# Altium footprint library PCB Components.PcbLib: 18 footprints (part 1 of 2)
Each footprint in its own frame and in the unit in brackets; x right, y up, seen from the top. Pads: shape width x height; smd on the part's side, far side on the other; paste and mask are expansions set on the pad; w line width, h text height; cw(c..) or ccw(c..) is an arc to the next point about the centre after c.
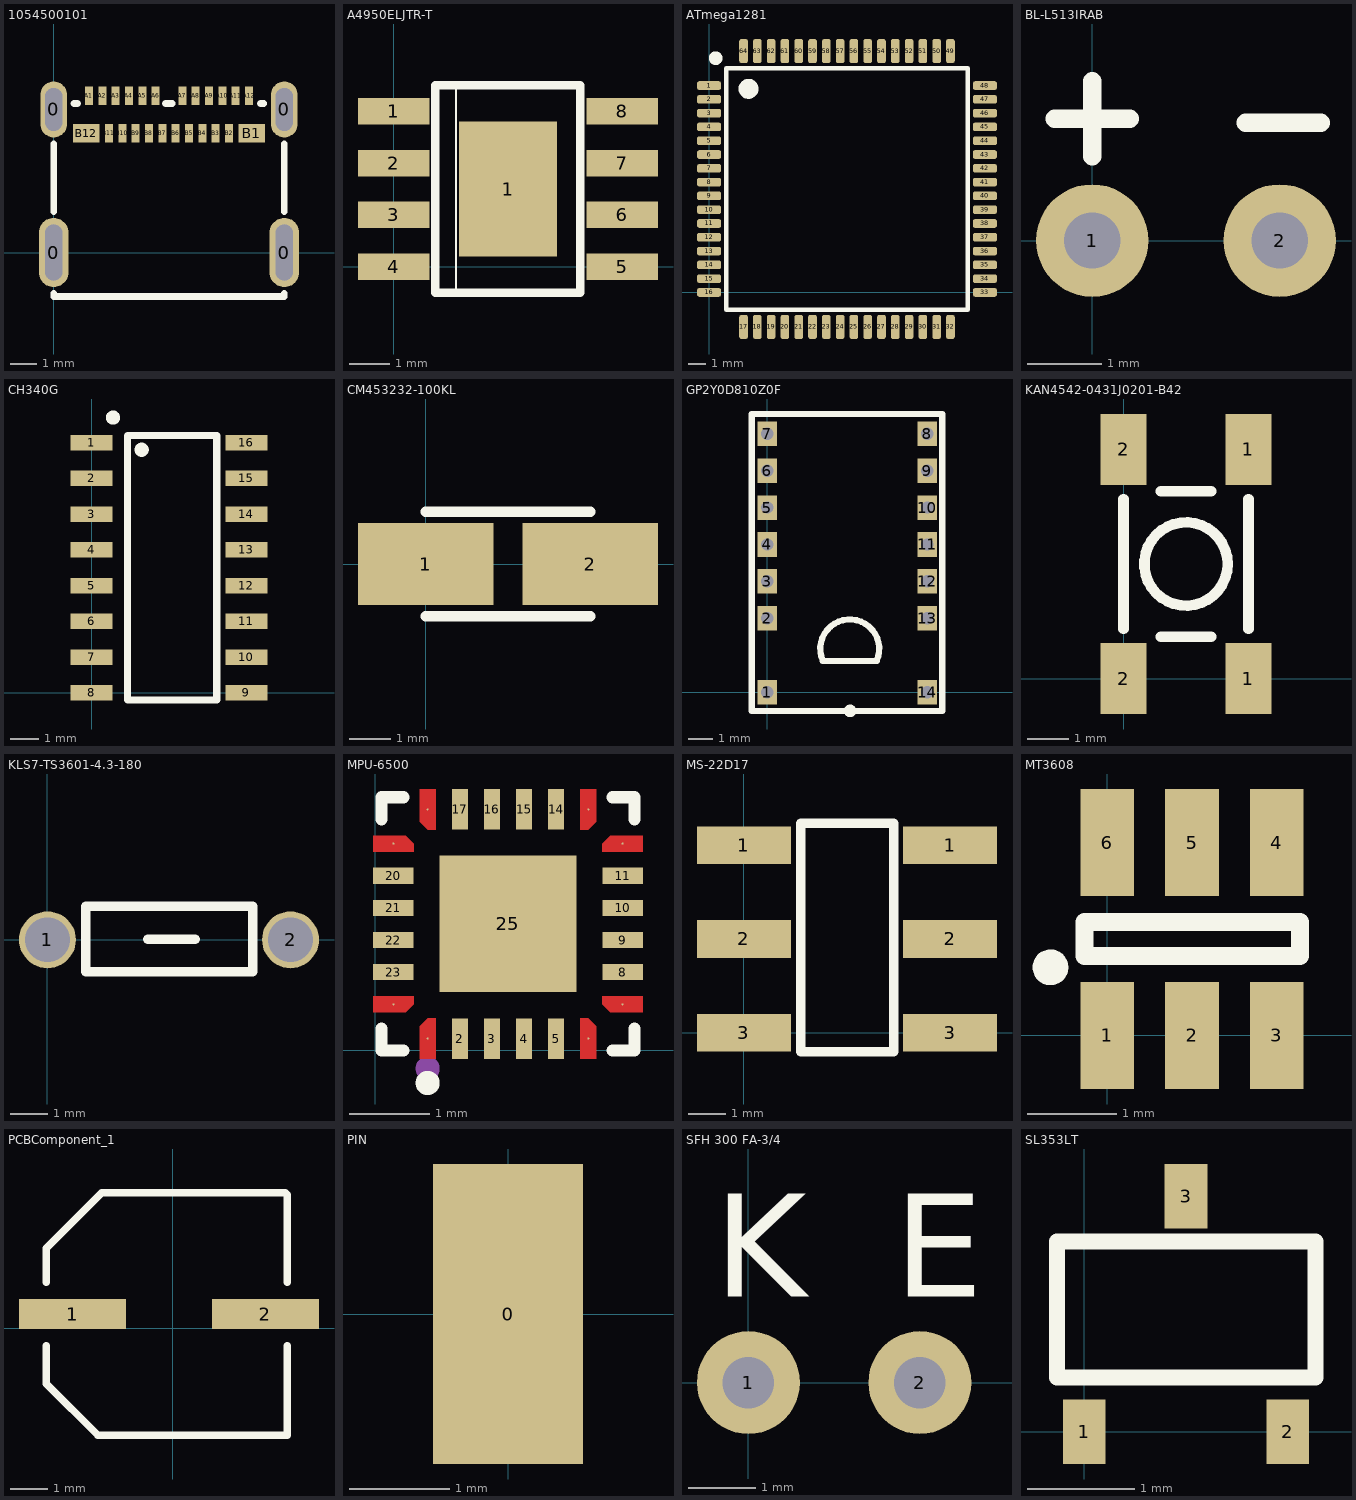
[diagram p0: the footprints below, top view; thin cyan lines are the x and y axes]

## 1054500101 [mm]
pads (28):
  oval 1.1x2.6 hole 0.65 slot 2.1 at 90 deg: 0(0,0) 0(8.64,0)
  oval 1x2.1 hole 0.65 slot 1.6 at 90 deg: 0(0,5.36) 0(8.64,5.36)
  rect 0.3x0.7 smd: A1(1.32,5.87) A2(1.82,5.87) A3(2.32,5.87) A4(2.82,5.87) A5(3.32,5.87) A6(3.82,5.87) A7(4.82,5.87) A8(5.32,5.87) A9(5.82,5.87) A10(6.32,5.87) A11(6.82,5.87) A12(7.32,5.87) B2(6.57,4.47) B3(6.07,4.47) B4(5.57,4.47) B5(5.07,4.47) B6(4.57,4.47) B7(4.07,4.47) B8(3.57,4.47) B9(3.07,4.47) B10(2.57,4.47) B11(2.07,4.47)
  rect 1x0.7 smd: B1(7.42,4.47) B12(1.22,4.47)
Top Overlay:
  lines w0.254: 0,-1.524 0,-1.651 8.636,-1.651 8.636,-1.524 ; 0,1.524 0,4.064 ; 0.762,5.588 0.889,5.588 ; 4.191,5.588 4.445,5.588 ; 7.747,5.588 7.874,5.588 ; 8.636,1.524 8.636,4.064

## A4950ELJTR-T [mm]
pads (9):
  rect 1.75x0.65 smd: 1(0,3.81) 2(0,2.54) 3(0,1.27) 4(0,0) 5(5.6,0) 6(5.6,1.27) 7(5.6,2.54) 8(5.6,3.81)
  rect 2.41x3.3 smd: 1(2.8,1.905)
Top Overlay:
  lines w0.05: 1.524,-0.635 1.524,4.445
  lines w0.2: 1.016,-0.635 4.572,-0.635 4.572,4.445 1.016,4.445 1.016,-0.635

## ATmega1281 [mm]
pads (64):
  rrect50% 1.4x0.5 smd: 1(0,12) 2(0,11.2) 3(0,10.4) 4(0,9.6) 5(0,8.8) 6(0,8) 7(0,7.2) 8(0,6.4) 9(0,5.6) 10(0,4.8) 11(0,4) 12(0,3.2) 13(0,2.4) 14(0,1.6) 15(0,0.8) 16(0,0) 33(16,0) 34(16,0.8) 35(16,1.6) 36(16,2.4) 37(16,3.2) 38(16,4) 39(16,4.8) 40(16,5.6) 41(16,6.4) 42(16,7.2) 43(16,8) 44(16,8.8) 45(16,9.6) 46(16,10.4) 47(16,11.2) 48(16,12)
  rrect50% 0.5x1.4 smd: 17(2,-2) 18(2.8,-2) 19(3.6,-2) 20(4.4,-2) 21(5.2,-2) 22(6,-2) 23(6.8,-2) 24(7.6,-2) 25(8.4,-2) 26(9.2,-2) 27(10,-2) 28(10.8,-2) 29(11.6,-2) 30(12.4,-2) 31(13.2,-2) 32(14,-2) 49(14,14) 50(13.2,14) 51(12.4,14) 52(11.6,14) 53(10.8,14) 54(10,14) 55(9.2,14) 56(8.4,14) 57(7.6,14) 58(6.8,14) 59(6,14) 60(5.2,14) 61(4.4,14) 62(3.6,14) 63(2.8,14) 64(2,14)
Top Overlay:
  circle w0.6: c2.286,11.811 r0.278
  circle w0.4: c0.381,13.589 r0.198
  lines w0.254: 1,-1 15,-1 15,13 1,13 1,-1

## BL-L513IRAB [mil]
pads (2):
  round 60 hole 30: 1(0,0) 2(100,0)
Top Overlay:
  lines w9.84: -20,65 20,65 ; 0,45 0,85 ; 81.96,62.76 121.96,62.76

## CH340G [mm]
pads (16):
  rect 1.5x0.55 smd: 1(0,8.89) 2(0,7.62) 3(0,6.35) 4(0,5.08) 5(0,3.81) 6(0,2.54) 7(0,1.27) 8(0,0) 9(5.5,0) 10(5.5,1.27) 11(5.5,2.54) 12(5.5,3.81) 13(5.5,5.08) 14(5.5,6.35) 15(5.5,7.62) 16(5.5,8.89)
Top Overlay:
  circle w0.254: c0.762,9.779 r0.127
  circle w0.254: c1.778,8.636 r0.127
  lines w0.254: 1.27,-0.254 4.445,-0.254 4.445,9.144 1.27,9.144 1.27,-0.254

## CM453232-100KL [mm]
pads (2):
  rect 3.3x2 smd: 1(0,0) 2(4,0)
Top Overlay:
  lines w0.254: 0,-1.27 4,-1.27 ; 0,1.27 4,1.27

## GP2Y0D810Z0F [mm]
pads (14):
  rect 0.8x1 hole 0.5 square: 1(0,0) 2(0,3) 3(0,4.5) 4(0,6) 5(0,7.5) 6(0,9) 7(0,10.5) 8(6.5,10.5) 9(6.5,9) 10(6.5,7.5) 11(6.5,6) 12(6.5,4.5) 13(6.5,3) 14(6.5,0)
Top Overlay:
  circle w0.254: c3.365,-0.762 r0.127
  lines w0.254: -0.635,-0.762 -0.635,11.303 7.112,11.303 7.112,-0.762 -0.635,-0.762 ; 2.255,1.27 cw(c3.35,1.757) 4.445,1.27 2.255,1.27

## KAN4542-0431J0201-B42 [mm]
pads (4):
  rect 1.1x1.7 smd: 1(3,0) 1(3,5.5) 2(0,0) 2(0,5.5)
Top Overlay:
  circle w0.254: c1.5,2.75 r1
  lines w0.254: 0,1.2 0,4.3 ; 0.9,1 2.1,1 ; 0.9,4.5 2.1,4.5 ; 3,1.2 3,4.3

## KLS7-TS3601-4.3-180 [mil]
pads (2):
  round 60 hole 47.24: 1(0,0) 2(255.91,0)
Top Overlay:
  lines w10: 105.76,0.42 155.6,0.42 ; 40.4,-33.42 40.4,35.1 216.39,35.1 216.39,-33.42 40.4,-33.42

## MPU-6500 [mm]
pads (25):
  round 0.025 smd mask+0.051: 1(0.65,0.147) 6(2.65,0.147) 7(3.077,0.574) 12(3.077,2.574) 13(2.65,3.001) 18(0.65,3.001) 19(0.223,2.574) 24(0.223,0.574)
  rect 0.2x0.505 smd paste-100 mask+0.051: 2(1.05,0.147) 3(1.45,0.147) 4(1.85,0.147) 5(2.25,0.147) 14(2.25,3.002) 15(1.85,3.002) 16(1.45,3.002) 17(1.05,3.002)
  rect 0.505x0.2 smd paste-100 mask+0.051: 8(3.077,0.974) 9(3.077,1.374) 10(3.077,1.774) 11(3.077,2.174) 20(0.222,2.174) 21(0.222,1.774) 22(0.222,1.374) 23(0.222,0.974)
  rect 1.7x1.7 smd paste-100 mask+0.051: 25(1.65,1.574)
Top Layer:
  region: 3.33,2.674 2.924,2.674 2.824,2.574 2.825,2.474 3.33,2.474
  region: 2.75,3.254 2.55,3.254 2.55,2.749 2.65,2.748 2.75,2.848
  region: 0.55,3.254 0.75,3.254 0.75,2.749 0.65,2.749 0.55,2.849
  region: -0.03,2.674 0.375,2.674 0.475,2.574 0.475,2.474 -0.03,2.474
  region: -0.03,0.474 0.375,0.474 0.475,0.574 0.475,0.674 -0.03,0.674
  region: 2.75,-0.106 2.55,-0.106 2.55,0.399 2.65,0.4 2.75,0.3
  region: 3.33,0.474 2.924,0.474 2.824,0.574 2.825,0.674 3.33,0.674
  region: 0.55,-0.106 0.75,-0.106 0.75,0.399 0.65,0.4 0.55,0.299
Top Overlay:
  circle w0.15: c0.65,-0.406 r0.075
  lines w0.152: 0.074,0.272 0.074,-0.002 0.347,-0.002 ; 0.074,2.877 0.074,3.15 0.347,3.15 ; 2.952,-0.002 3.226,-0.002 3.226,0.272 ; 2.952,3.15 3.226,3.15 3.226,2.877
Top Paste:
  region: 1.75,3.254 1.75,2.749 1.95,2.749 1.95,3.254
  region: 2.15,3.254 2.15,2.749 2.35,2.749 2.35,3.254
  region: 1.15,2.749 1.15,3.254 0.95,3.254 0.95,2.749
  region: 1.55,2.749 1.55,3.254 1.35,3.254 1.35,2.749
  region: 0.75,2.749 0.75,3.254 0.55,3.254 0.55,2.849 0.65,2.749
  region: 2.75,2.848 2.75,3.254 2.55,3.254 2.55,2.749 2.65,2.748
  region: -0.03,2.674 -0.03,2.474 0.475,2.474 0.475,2.574 0.375,2.674
  region: 2.924,2.674 2.824,2.574 2.825,2.474 3.33,2.474 3.33,2.674
  region: -0.03,2.274 -0.03,2.074 0.475,2.074 0.475,2.274
  region: 3.33,2.074 3.33,2.274 2.825,2.274 2.825,2.074
  region: 3.33,1.674 3.33,1.874 2.825,1.874 2.825,1.674
  region: -0.03,1.874 -0.03,1.674 0.475,1.674 0.475,1.874
  region: 3.33,1.274 3.33,1.474 2.825,1.474 2.825,1.274
  region: -0.03,1.474 -0.03,1.274 0.475,1.274 0.475,1.474
  region: -0.03,1.074 -0.03,0.874 0.475,0.874 0.475,1.074
  region: 3.33,0.874 3.33,1.074 2.825,1.074 2.825,0.874
  region: 0.93,2.294 2.37,2.294 2.37,0.854 0.93,0.854
  region: -0.03,0.674 -0.03,0.474 0.375,0.474 0.475,0.574 0.475,0.674
  region: 3.33,0.474 3.33,0.674 2.825,0.674 2.824,0.574 2.924,0.474
  region: 2.35,-0.106 2.35,0.399 2.15,0.399 2.15,-0.106
  region: 0.95,0.399 0.95,-0.106 1.15,-0.106 1.15,0.399
  region: 1.55,-0.106 1.55,0.399 1.35,0.399 1.35,-0.106
  region: 1.95,-0.106 1.95,0.399 1.75,0.399 1.75,-0.106
  region: 2.65,0.4 2.55,0.399 2.55,-0.106 2.75,-0.106 2.75,0.3
  region: 0.75,0.399 0.65,0.4 0.55,0.299 0.55,-0.106 0.75,-0.106
Mechanical 15:
  circle w0.15: c0.65,-0.226 r0.075

## MS-22D17 [mm]
pads (6):
  rect 2.5x1 smd: 1(0,5) 1(5.5,5) 2(0,2.5) 2(5.5,2.5) 3(0,0) 3(5.5,0)
Top Overlay:
  lines w0.254: 1.514,-0.508 1.514,5.588 3.994,5.588 3.994,-0.508 1.514,-0.508

## MT3608 [mm]
pads (6):
  rect 0.6x1.2 smd: 1(0,0) 2(0.95,0) 3(1.9,0) 4(1.9,2.159) 5(0.95,2.159) 6(0,2.159)
Top Overlay:
  circle w0.2: c-0.635,0.762 r0.1
  lines w0.2: -0.254,0.889 2.159,0.889 2.159,1.27 -0.254,1.27 -0.254,0.889

## PCBComponent_1 [mm]
pads (2):
  rect 2.85x0.8 smd: 1(-2.667,0.381) 2(2.458,0.381)
Top Overlay:
  lines w0.2: -3.367,-0.469 -3.367,-1.469 -1.992,-2.844 3.033,-2.844 3.033,-0.469 ; -3.367,1.231 -3.367,2.131 -1.892,3.606 2.983,3.606 3.033,3.556 3.033,1.231
3D body "User Library-capacitor size D.STEP": height 5.41, standoff -0.01, extent -3.642,-2.969 3.358,3.631

## PIN [mm]
pads (1):
  rect 1.5x3 smd: 0(0,0)

## SFH 300 FA-3/4 [mil]
pads (2):
  round 60 hole 30: 1(0,0) 2(100,0)
Top Overlay:
  text "E" at 85,50 h60
  text "K" at -20,50 h60

## SL353LT [mm]
pads (3):
  rect 0.4x0.6 smd: 1(0,0) 2(1.9,0) 3(0.95,2.2)
Top Overlay:
  lines w0.15: -0.254,0.508 -0.254,1.778 2.159,1.778 2.159,0.508 -0.254,0.508